# EAGLE library part WE-RJ45_LAN_10/100_BASET_7499011215 (library Wuerth_Elektronik_eiSos_Version_6-12)
WE-RJ45 LAN Transformer 10/100 BaseT - RJ45 connector with integrated transformer common mode choke - 350 µH min.OCL with 8 mA bias - Complies with IEEE 802.3 - Extended temperature range from -40°C to +85°C available -- ADSL Modem -- Embedded PC -- LAN network applications -- Hub, Router, Switches
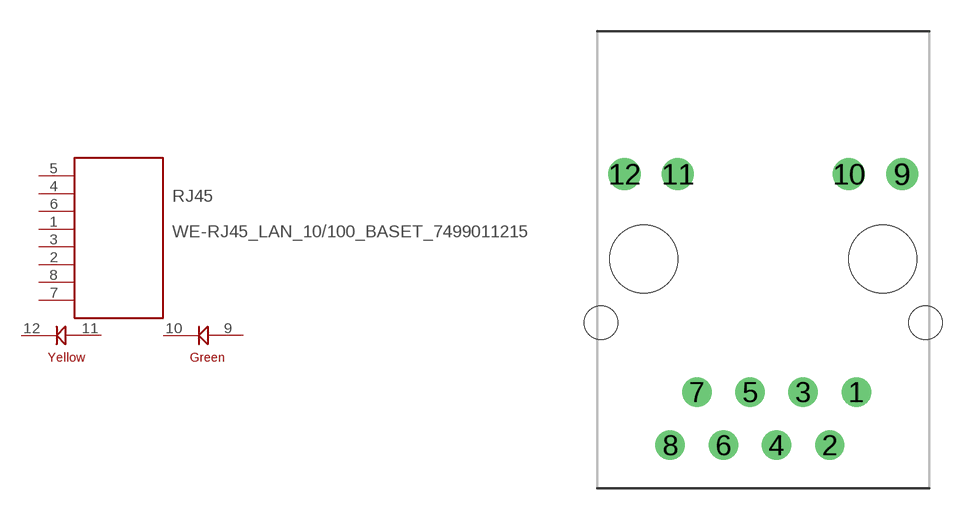
[diagram p64: symbol with the pads of WE-RJ45_LAN_10/100_BASET_7499011215; footprint WE-RJ45_LAN_10/100_BASET_7499011215]

Designator prefix RJ45

## WE-RJ45_LAN_10/100_BASET_7499011215_7499011215  [WE-RJ45_LAN_10/100_BASET_7499011215]
1  4  pas
2  6  pas
3  5  pas
4  2  pas
5  1  pas
6  3  pas
7  8  pas
8  7  pas
9  11  pas
10  12  pas
11  9  pas
12  10  pas

## Footprint WE-RJ45_LAN_10/100_BASET_7499011215 (pad centres in mm)
WE-RJ45 LAN Transformer 10/100 BaseT with LED
drill 0.9 round: 1 4.445,-6.35; 2 3.175,-8.89; 3 1.905,-6.35; 4 0.635,-8.89; 5 -0.635,-6.35; 6 -1.905,-8.89; 7 -3.175,-6.35; 8 -4.445,-8.89
drill 1.02 round: 9 6.63,4.06; 10 4.09,4.06; 11 -4.09,4.06; 12 -6.63,4.06
hole 3.25 at 5.715,0
hole 3.25 at -5.715,0
hole 1.6 at -7.745,-3.05
hole 1.6 at 7.745,-3.05